# Altium footprint library CFS20632768EZBB.PcbLib: 1 footprints
Each footprint in its own frame and in the unit in brackets; x right, y up, seen from the top. Pads: shape width x height; smd on the part's side, far side on the other; paste and mask are expansions set on the pad; w line width, h text height; cw(c..) or ccw(c..) is an arc to the next point about the centre after c.
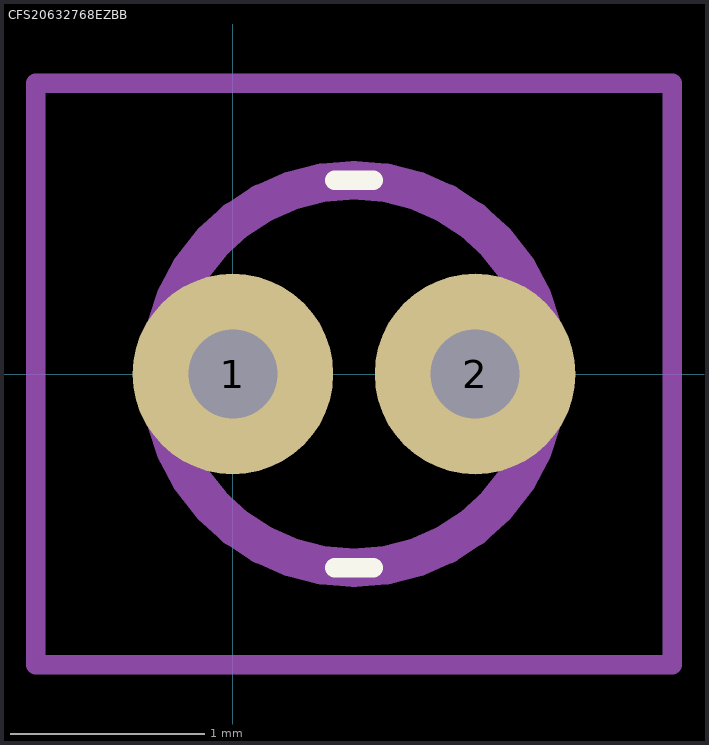
[diagram p0: the footprint, top view; thin cyan lines are the x and y axes]

## CFS20632768EZBB [mm]
pads (2):
  round 1.035 hole 0.46: 1(0,0) 2(1.25,0)
Top Overlay:
  lines w0.1: 0.525,-1 0.725,-1 ; 0.525,1 0.725,1
Mechanical 13:
  lines w0.1: -1.017,-1.5 2.267,-1.5 2.267,1.5 -1.017,1.5 -1.017,-1.5
  lines w0.2: 0.625,-1 ccw(c0.625,0) 0.625,1 ccw(c0.625,0) 0.625,-1
3D body "step_temp.STEP": height 12.5, standoff 0, extent -0.95,-0.95 0.95,0.95